# Altium footprint library XF2L.PcbLib: 1 footprints
Each footprint in its own frame and in the unit in brackets; x right, y up, seen from the top. Pads: shape width x height; smd on the part's side, far side on the other; paste and mask are expansions set on the pad; w line width, h text height; cw(c..) or ccw(c..) is an arc to the next point about the centre after c.
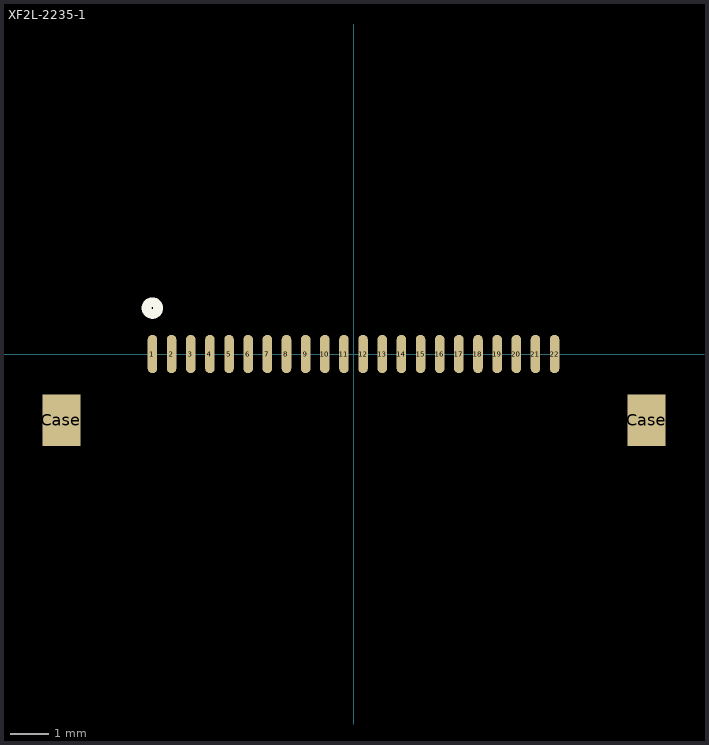
[diagram p0: the footprint, top view; thin cyan lines are the x and y axes]

## XF2L-2235-1 [mm] "CONN FPC 22POS 0.5MM SMT"
pads (24):
  oval 0.25x1 smd: 1(-5.25,0) 2(-4.75,0) 3(-4.25,0) 4(-3.75,0) 5(-3.25,0) 6(-2.75,0) 7(-2.25,0) 8(-1.75,0) 9(-1.25,0) 10(-0.75,0) 11(-0.25,0) 12(0.25,0) 13(0.75,0) 14(1.25,0) 15(1.75,0) 16(2.25,0) 17(2.75,0) 18(3.25,0) 19(3.75,0) 20(4.25,0) 21(4.75,0) 22(5.25,0)
  rect 1x1.34 smd: Case(-7.625,-1.725) Case(7.65,-1.725)
Top Overlay:
  circle w0.254: c-5.252,1.2 r0.152
3D body: height 1.2, standoff 0, extent -7.95,-3.325 7.95,0.125